# EAGLE library part N_MOSFET_DEV (library Blizzard_Library)
N Mosfet SOT23-6L
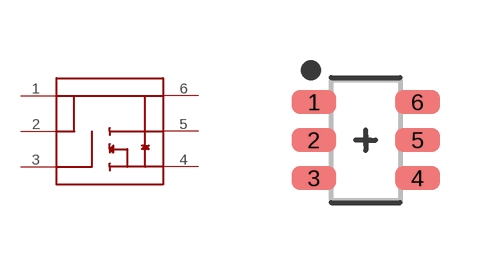
[diagram p16: symbol with the pads of SOT95P280X125-6; footprint SOT95P280X125-6]

Designator prefix Q

## N_MOSFET_DEVSOT23-6L_PKG (PN: ZXMN2A01E6CT-ND)  [SOT95P280X125-6]
1  D1
2  D2
3  G
4  S
5  D3
6  D4

## Footprint SOT95P280X125-6 (pad centres in mm)
6-SOT23, 0.95 mm pitch, 2.80 mm span, 2.93 X 1.63 X 1.25 mm body 6-pin SOT23 package with 0.95 mm pitch, 2.80 mm span with body size 2.93 X 1.63 X 1.25 mm
smd 1.121 x 0.599: 1 -1.297,0.95; 2 -1.297,0; 3 -1.297,-0.95; 4 1.297,-0.95; 5 1.297,0; 6 1.297,0.95